# Altium schematic symbol library SATAConnectors.SchLib: 1 symbol
Pins are listed as number, name and electrical type; pins without a type are passive.

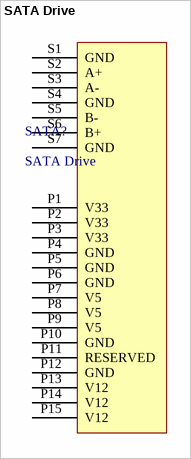
[diagram p0: symbol SATA Drive]

## SATA Drive
designator SATA?
SATA HDD, FCI Part# 10029364
footprint SATA COMB RECEPTICLE (Right Angle SATA Connector, FCI Part# 10029364)
footprint SATA HDD (FCI Part# 10029364 With HDD Holes and Screen)
footprint SATA_raised (SATA raised by 1.2 cm)
footprint SATA_RAISED_NO_STANDOFFS (SATA raised by 1.2 cm but not standoff holes)
footprint SandiskMini
pins: P1 V33, P2 V33, P3 V33, P4 GND, P5 GND, P6 GND, P7 V5, P8 V5, P9 V5, P10 GND, P11 RESERVED, P12 GND, P13 V12, P14 V12, P15 V12, S1 GND, S2 A+, S3 A-, S4 GND, S5 B-, S6 B+, S7 GND